# Altium integrated library ADUM5000.IntLib: 1 symbol
Pins are listed as number, name and electrical type; pins without a type are passive.

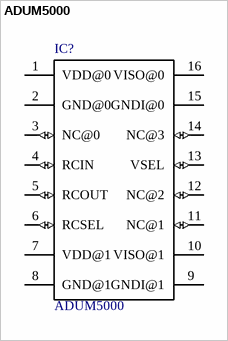
[diagram p0: symbol ADUM5000]

## ADUM5000
designator IC?
ADI Isolated DC/DC Converter; MF: Analog Devices; SnapEDA_Link: https://www.snapeda.com/parts/ADUM5000/Analog%20Devices%20Inc./view-part/?ref=snap; Price: None; Availability: Unavailable; MP: ADUM5000; Package: None; Value: *
footprint *SO16W
pins: 1 VDD@0 (power), 2 GND@0 (power), 3 NC@0 (io), 4 RCIN (io), 5 RCOUT (io), 6 RCSEL (io), 7 VDD@1, 8 GND@1 (power), 9 GNDI@1 (power), 10 VISO@1, 11 NC@1 (io), 12 NC@2 (io), 13 VSEL (io), 14 NC@3 (io), 15 GNDI@0 (power), 16 VISO@0 (power)